# Altium footprint library AltiumLibraries.PcbLib: 84 footprints (part 6 of 6)
Each footprint in its own frame and in the unit in brackets; x right, y up, seen from the top. Pads: shape width x height; smd on the part's side, far side on the other; paste and mask are expansions set on the pad; w line width, h text height; cw(c..) or ccw(c..) is an arc to the next point about the centre after c.
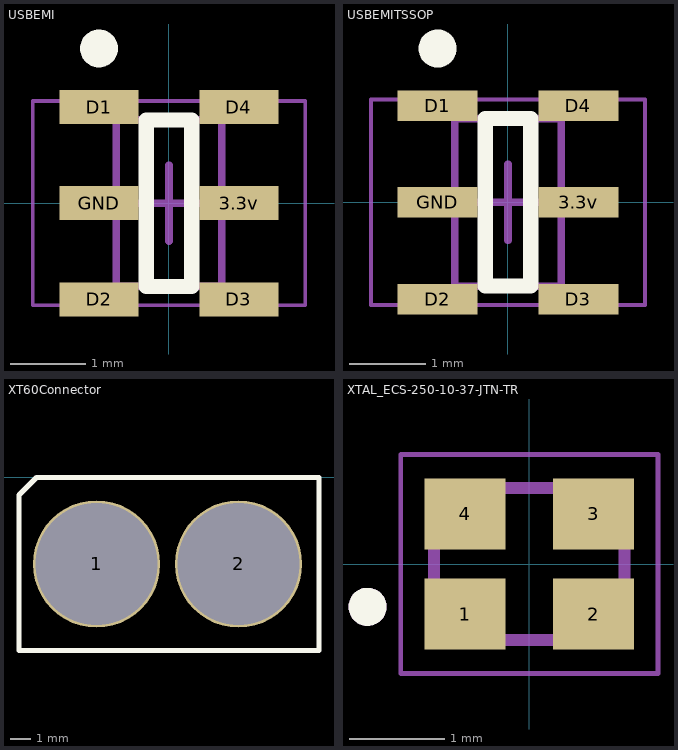
[diagram p5: the footprints below, top view; thin cyan lines are the x and y axes]

## USBEMI [mm] "RC (Pi) EMI Filter 2nd Order Low Pass 2 Channel R = 33Ohms, C = 47pF  6-TSSOP, SC-88, SOT-363"
height 1.1
pads (6):
  rect 1.05x0.45 smd: 3.3v(0.925,0) D1(-0.925,1.27) D2(-0.925,-1.27) D3(0.925,-1.27) D4(0.925,1.27) GND(-0.925,0)
Top Overlay:
  circle w0.25: c-0.925,2.045 r0.125
  lines w0.2: -0.3,-1.1 0.3,-1.1 0.3,1.1 -0.3,1.1 -0.3,-1.1
Mechanical 13:
  lines w0.1: -0.7,-1.1 0.7,-1.1 0.7,1.1 -0.7,1.1 -0.7,-1.1
Mechanical 15:
  lines w0.05: -1.8,-1.35 1.8,-1.35 1.8,1.35 -1.8,1.35 -1.8,-1.35
  lines w0.1: -0.5,0 0.5,0 ; 0,-0.5 0,0.5
3D body: height 1.1, standoff 0.8, extent -0.7,-1.1 0.7,1.1

## USBEMITSSOP [mm] "RC (Pi) EMI Filter 2nd Order Low Pass 2 Channel R = 33Ohms, C = 47pF  6-TSSOP, SC-88, SOT-363"
height 1.1
pads (6):
  rect 1.05x0.4 smd: 3.3v(0.925,0) D1(-0.925,1.27) D2(-0.925,-1.27) D3(0.925,-1.27) D4(0.925,1.27) GND(-0.925,0)
Top Overlay:
  circle w0.25: c-0.925,2.02 r0.125
  lines w0.2: -0.3,-1.1 0.3,-1.1 0.3,1.1 -0.3,1.1 -0.3,-1.1
Mechanical 13:
  lines w0.1: -0.7,-1.1 0.7,-1.1 0.7,1.1 -0.7,1.1 -0.7,-1.1
Mechanical 15:
  lines w0.05: -1.8,-1.35 1.8,-1.35 1.8,1.35 -1.8,1.35 -1.8,-1.35
  lines w0.1: -0.5,0 0.5,0 ; 0,-0.5 0,0.5
3D body: height 1.1, standoff 0.1, extent -0.7,-1.1 0.7,1.1

## XT60Connector [mm]
pads (2):
  round 6.25 hole 6: 1(4.572,-4.25) 2(11.55,-4.25)
Top Overlay:
  lines w0.254: 4.05,-4.25 4.05,-3.5 ; 7.75,0 1.624,0 ; 11.45,-4.25 11.45,-3 ; 1.624,0 0.762,-0.862 0.762,-8.5 15.5,-8.5 15.5,0 1.624,0

## XTAL_ECS-250-10-37-JTN-TR [mm]
pads (4):
  rect 0.85x0.75 smd: 1(-0.675,-0.525) 2(0.675,-0.525) 3(0.675,0.525) 4(-0.675,0.525)
Top Overlay:
  circle w0.2: c-1.7,-0.45 r0.1
Mechanical 13:
  circle w0.2: c-1.7,-0.45 r0.1
  lines w0.127: -1,-0.8 -1,0.8 1,0.8 1,-0.8 -1,-0.8
Mechanical 15:
  lines w0.05: -1.35,-1.15 -1.35,1.15 1.35,1.15 1.35,-1.15 -1.35,-1.15